# Altium footprint library Relay_THT.PcbLib: 117 footprints (part 8 of 8)
Each footprint in its own frame and in the unit in brackets; x right, y up, seen from the top. Pads: shape width x height; smd on the part's side, far side on the other; paste and mask are expansions set on the pad; w line width, h text height; cw(c..) or ccw(c..) is an arc to the next point about the centre after c.
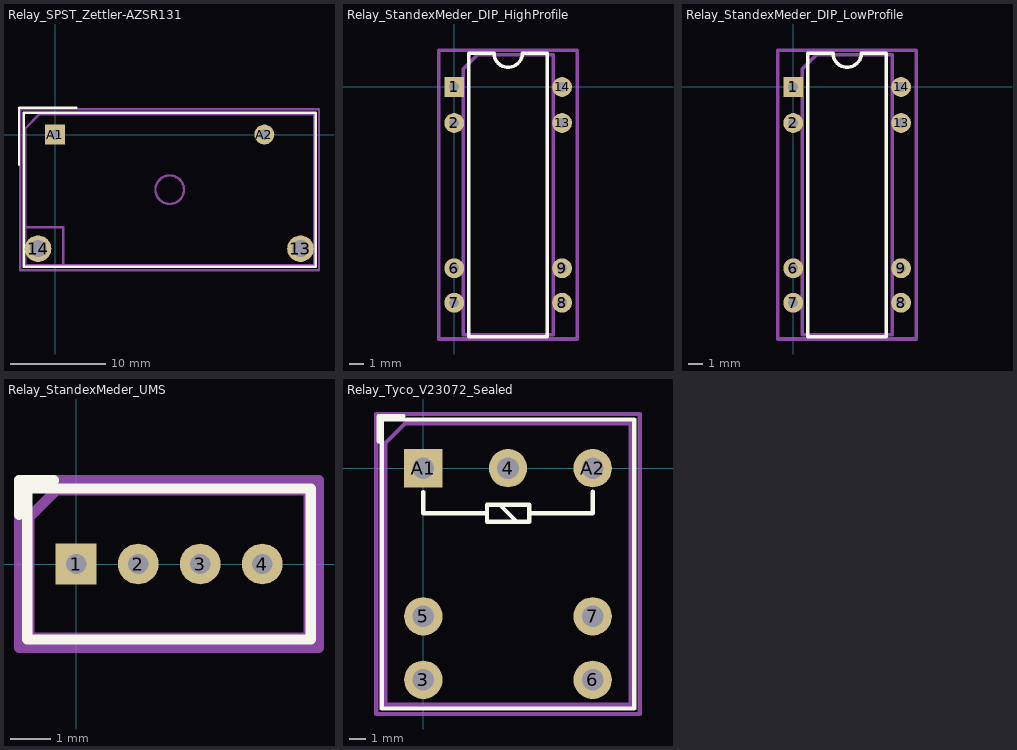
[diagram p7: the footprints below, top view; thin cyan lines are the x and y axes]

## Relay_SPST_Zettler-AZSR131 [mm]
pads (4):
  round 2.8 hole 1.8: 13(25.8,-12) 14(-1.8,-12)
  rect 2.1x2.1 hole 1.1: A1(0,0)
  round 2.1 hole 1.1: A2(22,0)
F.SilkS:
  lines w0.254: -3.8,-3.2 -3.8,2.8 2.2,2.8 ; -3.3,-13.9 -3.3,2.3 27.4,2.3 27.4,-13.9 -3.3,-13.9
F.Fab:
  circle w0.254: c-1.2,-11.781 r0.619
  circle w0.254: c12.05,-5.8 r1.5
  lines w0.254: -3.15,-13.75 -3.15,0.65 -1.65,2.15 27.25,2.15 27.25,-13.75 -3.15,-13.75 ; -3.15,-13.75 -3.15,-9.75 0.85,-9.75 0.85,-13.75 -3.15,-13.75
  text "'.Designator'" at 8.003,-6.64 h1
F.CrtYd:
  lines w0.254: -3.65,-14.25 -3.65,2.65 27.75,2.65 27.75,-14.25 -3.65,-14.25

## Relay_StandexMeder_DIP_HighProfile [mm]
pads (8):
  rect 1.4x1.4 hole 0.7: 1(0,0)
  round 1.4 hole 0.7: 2(0,-2.54) 6(0,-12.8) 7(0,-15.24) 8(7.62,-15.24) 9(7.62,-12.8) 13(7.62,-2.54) 14(7.62,0)
F.SilkS:
  lines w0.254: 1.04,-17.63 1.04,2.39 2.81,2.39 ccw(c3.81,2.39) 4.81,2.39 6.58,2.39 6.58,-17.63 1.04,-17.63
F.Fab:
  lines w0.254: 0.64,-17.51 0.64,1.27 1.64,2.27 6.99,2.27 6.99,-17.51 0.64,-17.51
  text "'.Designator'" at -0.232,-8.46 h1
F.CrtYd:
  lines w0.254: -1.1,-17.8 -1.1,2.6 8.7,2.6 8.7,-17.8 -1.1,-17.8
3D body "Relay_StandexMeder_DIP_HighProfile.step": height 7.7, standoff -3.2, extent -0.2,-17.27 7.82,2.03

## Relay_StandexMeder_DIP_LowProfile [mm]
pads (8):
  rect 1.4x1.4 hole 0.7: 1(0,0)
  round 1.4 hole 0.7: 2(0,-2.54) 6(0,-12.8) 7(0,-15.24) 8(7.62,-15.24) 9(7.62,-12.8) 13(7.62,-2.54) 14(7.62,0)
F.SilkS:
  lines w0.254: 1.04,-17.63 1.04,2.39 2.81,2.39 ccw(c3.81,2.39) 4.81,2.39 6.58,2.39 6.58,-17.63 1.04,-17.63
F.Fab:
  lines w0.254: 0.64,-17.51 0.64,1.27 1.64,2.27 6.99,2.27 6.99,-17.51 0.64,-17.51
  text "'.Designator'" at -0.232,-8.46 h1
F.CrtYd:
  lines w0.254: -1.1,-17.8 -1.1,2.6 8.7,2.6 8.7,-17.8 -1.1,-17.8
3D body "Relay_StandexMeder_DIP_LowProfile.step": height 5.3, standoff -3.2, extent -0.2,-17.27 7.82,2.03

## Relay_StandexMeder_UMS [mm]
pads (4):
  rect 1x1 hole 0.5: 1(0,0)
  round 1 hole 0.5: 2(1.52,0) 3(3.04,0) 4(4.56,0)
F.SilkS:
  lines w0.254: -1.4,1.2 -1.4,2.05 -0.55,2.05 ; -1.2,-1.85 5.75,-1.85 5.75,1.85 -1.2,1.85 -1.2,-1.85
F.Fab:
  lines w0.254: -1.15,-1.8 5.7,-1.8 5.7,1.8 -0.5,1.8 -1.15,1.15 -1.15,-1.8
  text "'.Designator'" at -1.847,-0.84 h1
F.CrtYd:
  lines w0.254: -1.4,-2.05 5.95,-2.05 5.95,2.05 -1.4,2.05 -1.4,-2.05
3D body "Relay_StandexMeder_UMS.step": height 9.6, standoff -3.51, extent -1.145,-1.8 5.705,1.8

## Relay_Tyco_V23072_Sealed [mm]
pads (7):
  round 2.3 hole 1.3: 3(0,-12.7) 4(5.08,0) 5(0,-8.89) 6(10.16,-12.7) 7(10.16,-8.89) A2(10.16,0)
  rect 2.3x2.3 hole 1.3: A1(0,0)
F.SilkS:
  lines w0.254: -2.692,1.612 -2.692,3.112 -1.192,3.112 ; 0,-1.43 0,-2.7 3.815,-2.7 ; 4.575,-2.19 5.585,-3.21 ; 10.16,-1.415 10.16,-2.7 6.355,-2.7 ; 3.815,-2.7 3.815,-2.19 6.355,-2.19 6.355,-2.7 ; 3.815,-2.7 3.815,-3.21 6.355,-3.21 6.355,-2.7 ; -2.489,-14.427 -2.489,2.921 12.649,2.921 12.649,-14.427 -2.489,-14.427
F.Fab:
  lines w0.254: -2.27,1.52 -2.27,-14.2 12.43,-14.2 12.43,2.7 -1.08,2.7 ; -2.244,1.541 -1.109,2.676
  text "'.Designator'" at 1.033,-6.682 h1
F.CrtYd:
  lines w0.254: -2.82,-14.75 -2.82,3.25 12.98,3.25 12.98,-14.75 -2.82,-14.75